# Altium footprint library CCGA - Square.PcbLib: 3 footprints
Each footprint in its own frame and in the unit in brackets; x right, y up, seen from the top. Pads: shape width x height; smd on the part's side, far side on the other; paste and mask are expansions set on the pad; w line width, h text height; cw(c..) or ccw(c..) is an arc to the next point about the centre after c.
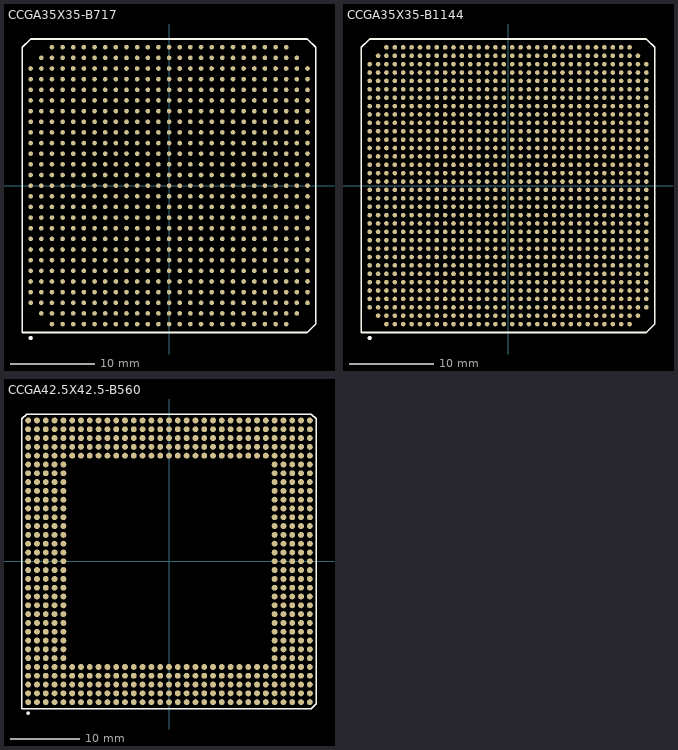
[diagram p0: the footprints below, top view; thin cyan lines are the x and y axes]

## CCGA35X35-B717 [mm] "717-Pin Ceramic Column Grid Array Package 1.27mm Pitch (CG717)"
height 5.5
pads (717):
  round 0.55 smd: A3(-16.51,-13.97) A4(-16.51,-12.7) A5(-16.51,-11.43) A6(-16.51,-10.16) A7(-16.51,-8.89) A8(-16.51,-7.62) A9(-16.51,-6.35) A10(-16.51,-5.08) A11(-16.51,-3.81) A12(-16.51,-2.54) A13(-16.51,-1.27) A14(-16.51,0) A15(-16.51,1.27) A16(-16.51,2.54) A17(-16.51,3.81) A18(-16.51,5.08) A19(-16.51,6.35) A20(-16.51,7.62) A21(-16.51,8.89) A22(-16.51,10.16) A23(-16.51,11.43) A24(-16.51,12.7) A25(-16.51,13.97) AA1(8.89,-16.51) AA2(8.89,-15.24) AA3(8.89,-13.97) AA4(8.89,-12.7) AA5(8.89,-11.43) AA6(8.89,-10.16) AA7(8.89,-8.89) AA8(8.89,-7.62) AA9(8.89,-6.35) AA10(8.89,-5.08) AA11(8.89,-3.81) AA12(8.89,-2.54) AA13(8.89,-1.27) AA14(8.89,0) AA15(8.89,1.27) AA16(8.89,2.54) AA17(8.89,3.81) AA18(8.89,5.08) AA19(8.89,6.35) AA20(8.89,7.62) AA21(8.89,8.89) AA22(8.89,10.16) AA23(8.89,11.43) AA24(8.89,12.7) AA25(8.89,13.97) AA26(8.89,15.24) AA27(8.89,16.51) AB1(10.16,-16.51) AB2(10.16,-15.24) AB3(10.16,-13.97) AB4(10.16,-12.7) AB5(10.16,-11.43) AB6(10.16,-10.16) AB7(10.16,-8.89) AB8(10.16,-7.62) AB9(10.16,-6.35) AB10(10.16,-5.08) AB11(10.16,-3.81) AB12(10.16,-2.54) AB13(10.16,-1.27) AB14(10.16,0) AB15(10.16,1.27) AB16(10.16,2.54) AB17(10.16,3.81) AB18(10.16,5.08) AB19(10.16,6.35) AB20(10.16,7.62) AB21(10.16,8.89) AB22(10.16,10.16) AB23(10.16,11.43) AB24(10.16,12.7) AB25(10.16,13.97) AB26(10.16,15.24) AB27(10.16,16.51) AC1(11.43,-16.51) AC2(11.43,-15.24) AC3(11.43,-13.97) AC4(11.43,-12.7) AC5(11.43,-11.43) AC6(11.43,-10.16) AC7(11.43,-8.89) AC8(11.43,-7.62) AC9(11.43,-6.35) AC10(11.43,-5.08) AC11(11.43,-3.81) AC12(11.43,-2.54) AC13(11.43,-1.27) AC14(11.43,0) AC15(11.43,1.27) AC16(11.43,2.54) AC17(11.43,3.81) AC18(11.43,5.08) AC19(11.43,6.35) AC20(11.43,7.62) AC21(11.43,8.89) AC22(11.43,10.16) AC23(11.43,11.43) AC24(11.43,12.7) AC25(11.43,13.97) AC26(11.43,15.24) AC27(11.43,16.51) AD1(12.7,-16.51) AD2(12.7,-15.24) AD3(12.7,-13.97) AD4(12.7,-12.7) AD5(12.7,-11.43) AD6(12.7,-10.16) AD7(12.7,-8.89) AD8(12.7,-7.62) AD9(12.7,-6.35) AD10(12.7,-5.08) AD11(12.7,-3.81) AD12(12.7,-2.54) AD13(12.7,-1.27) AD14(12.7,0) AD15(12.7,1.27) AD16(12.7,2.54) AD17(12.7,3.81) AD18(12.7,5.08) AD19(12.7,6.35) AD20(12.7,7.62) AD21(12.7,8.89) AD22(12.7,10.16) AD23(12.7,11.43) AD24(12.7,12.7) AD25(12.7,13.97) AD26(12.7,15.24) AD27(12.7,16.51) AE1(13.97,-16.51) AE2(13.97,-15.24) AE3(13.97,-13.97) AE4(13.97,-12.7) AE5(13.97,-11.43) AE6(13.97,-10.16) AE7(13.97,-8.89) AE8(13.97,-7.62) AE9(13.97,-6.35) AE10(13.97,-5.08) AE11(13.97,-3.81) AE12(13.97,-2.54) AE13(13.97,-1.27) AE14(13.97,0) AE15(13.97,1.27) AE16(13.97,2.54) AE17(13.97,3.81) AE18(13.97,5.08) AE19(13.97,6.35) AE20(13.97,7.62) AE21(13.97,8.89) AE22(13.97,10.16) AE23(13.97,11.43) AE24(13.97,12.7) AE25(13.97,13.97) AE26(13.97,15.24) AE27(13.97,16.51) AF2(15.24,-15.24) AF3(15.24,-13.97) AF4(15.24,-12.7) AF5(15.24,-11.43) AF6(15.24,-10.16) AF7(15.24,-8.89) AF8(15.24,-7.62) AF9(15.24,-6.35) AF10(15.24,-5.08) AF11(15.24,-3.81) AF12(15.24,-2.54) AF13(15.24,-1.27) AF14(15.24,0) AF15(15.24,1.27) AF16(15.24,2.54) AF17(15.24,3.81) AF18(15.24,5.08) AF19(15.24,6.35) AF20(15.24,7.62) AF21(15.24,8.89) AF22(15.24,10.16) AF23(15.24,11.43) AF24(15.24,12.7) AF25(15.24,13.97) AF26(15.24,15.24) AG3(16.51,-13.97) AG4(16.51,-12.7) AG5(16.51,-11.43) AG6(16.51,-10.16) AG7(16.51,-8.89) AG8(16.51,-7.62) AG9(16.51,-6.35) AG10(16.51,-5.08) AG11(16.51,-3.81) AG12(16.51,-2.54) AG13(16.51,-1.27) AG14(16.51,0) AG15(16.51,1.27) AG16(16.51,2.54) AG17(16.51,3.81) AG18(16.51,5.08) AG19(16.51,6.35) AG20(16.51,7.62) AG21(16.51,8.89) AG22(16.51,10.16) AG23(16.51,11.43) AG24(16.51,12.7) AG25(16.51,13.97) B2(-15.24,-15.24) B3(-15.24,-13.97) B4(-15.24,-12.7) B5(-15.24,-11.43) B6(-15.24,-10.16) B7(-15.24,-8.89) B8(-15.24,-7.62) B9(-15.24,-6.35) B10(-15.24,-5.08) B11(-15.24,-3.81) B12(-15.24,-2.54) B13(-15.24,-1.27) B14(-15.24,0) B15(-15.24,1.27) B16(-15.24,2.54) B17(-15.24,3.81) B18(-15.24,5.08) B19(-15.24,6.35) B20(-15.24,7.62) B21(-15.24,8.89) B22(-15.24,10.16) B23(-15.24,11.43) B24(-15.24,12.7) B25(-15.24,13.97) B26(-15.24,15.24) C1(-13.97,-16.51) C2(-13.97,-15.24) C3(-13.97,-13.97) C4(-13.97,-12.7) C5(-13.97,-11.43) C6(-13.97,-10.16) C7(-13.97,-8.89) C8(-13.97,-7.62) C9(-13.97,-6.35) C10(-13.97,-5.08) C11(-13.97,-3.81) C12(-13.97,-2.54) C13(-13.97,-1.27) C14(-13.97,0) C15(-13.97,1.27) C16(-13.97,2.54) C17(-13.97,3.81) C18(-13.97,5.08) C19(-13.97,6.35) C20(-13.97,7.62) C21(-13.97,8.89) C22(-13.97,10.16) C23(-13.97,11.43) C24(-13.97,12.7) C25(-13.97,13.97) C26(-13.97,15.24) C27(-13.97,16.51) D1(-12.7,-16.51) D2(-12.7,-15.24) D3(-12.7,-13.97) D4(-12.7,-12.7) D5(-12.7,-11.43) D6(-12.7,-10.16) D7(-12.7,-8.89) D8(-12.7,-7.62) D9(-12.7,-6.35) D10(-12.7,-5.08) D11(-12.7,-3.81) D12(-12.7,-2.54) D13(-12.7,-1.27) D14(-12.7,0) D15(-12.7,1.27) D16(-12.7,2.54) D17(-12.7,3.81) D18(-12.7,5.08) D19(-12.7,6.35) D20(-12.7,7.62) D21(-12.7,8.89) D22(-12.7,10.16) D23(-12.7,11.43) D24(-12.7,12.7) D25(-12.7,13.97) D26(-12.7,15.24) D27(-12.7,16.51) E1(-11.43,-16.51) E2(-11.43,-15.24) E3(-11.43,-13.97) E4(-11.43,-12.7) E5(-11.43,-11.43) E6(-11.43,-10.16) E7(-11.43,-8.89) E8(-11.43,-7.62) E9(-11.43,-6.35) E10(-11.43,-5.08) E11(-11.43,-3.81) E12(-11.43,-2.54) E13(-11.43,-1.27) E14(-11.43,0) E15(-11.43,1.27) E16(-11.43,2.54) E17(-11.43,3.81) E18(-11.43,5.08) E19(-11.43,6.35) E20(-11.43,7.62) E21(-11.43,8.89) E22(-11.43,10.16) E23(-11.43,11.43) E24(-11.43,12.7) E25(-11.43,13.97) E26(-11.43,15.24) E27(-11.43,16.51) F1(-10.16,-16.51) F2(-10.16,-15.24) F3(-10.16,-13.97) F4(-10.16,-12.7) F5(-10.16,-11.43) F6(-10.16,-10.16) F7(-10.16,-8.89) F8(-10.16,-7.62) F9(-10.16,-6.35) F10(-10.16,-5.08) F11(-10.16,-3.81) F12(-10.16,-2.54) F13(-10.16,-1.27) F14(-10.16,0) F15(-10.16,1.27) F16(-10.16,2.54) F17(-10.16,3.81) F18(-10.16,5.08) F19(-10.16,6.35) F20(-10.16,7.62) F21(-10.16,8.89) F22(-10.16,10.16) F23(-10.16,11.43) F24(-10.16,12.7) F25(-10.16,13.97) F26(-10.16,15.24) F27(-10.16,16.51) G1(-8.89,-16.51) G2(-8.89,-15.24) G3(-8.89,-13.97) G4(-8.89,-12.7) G5(-8.89,-11.43) G6(-8.89,-10.16) G7(-8.89,-8.89) G8(-8.89,-7.62) G9(-8.89,-6.35) G10(-8.89,-5.08) G11(-8.89,-3.81) G12(-8.89,-2.54) G13(-8.89,-1.27) G14(-8.89,0) G15(-8.89,1.27) G16(-8.89,2.54) G17(-8.89,3.81) G18(-8.89,5.08) G19(-8.89,6.35) G20(-8.89,7.62) G21(-8.89,8.89) G22(-8.89,10.16) G23(-8.89,11.43) G24(-8.89,12.7) G25(-8.89,13.97) G26(-8.89,15.24) G27(-8.89,16.51) H1(-7.62,-16.51) H2(-7.62,-15.24) H3(-7.62,-13.97) H4(-7.62,-12.7) H5(-7.62,-11.43) H6(-7.62,-10.16) H7(-7.62,-8.89) H8(-7.62,-7.62) H9(-7.62,-6.35) H10(-7.62,-5.08) H11(-7.62,-3.81) H12(-7.62,-2.54) H13(-7.62,-1.27) H14(-7.62,0) H15(-7.62,1.27) H16(-7.62,2.54) H17(-7.62,3.81) H18(-7.62,5.08) H19(-7.62,6.35) H20(-7.62,7.62) H21(-7.62,8.89) H22(-7.62,10.16) H23(-7.62,11.43) H24(-7.62,12.7) H25(-7.62,13.97) H26(-7.62,15.24) H27(-7.62,16.51) J1(-6.35,-16.51) J2(-6.35,-15.24) J3(-6.35,-13.97) J4(-6.35,-12.7) J5(-6.35,-11.43) J6(-6.35,-10.16) J7(-6.35,-8.89) J8(-6.35,-7.62) J9(-6.35,-6.35) J10(-6.35,-5.08) J11(-6.35,-3.81) J12(-6.35,-2.54) J13(-6.35,-1.27) J14(-6.35,0) J15(-6.35,1.27) J16(-6.35,2.54) J17(-6.35,3.81) J18(-6.35,5.08) J19(-6.35,6.35) J20(-6.35,7.62) J21(-6.35,8.89) J22(-6.35,10.16) J23(-6.35,11.43) J24(-6.35,12.7) J25(-6.35,13.97) J26(-6.35,15.24) J27(-6.35,16.51) K1(-5.08,-16.51) K2(-5.08,-15.24) K3(-5.08,-13.97) K4(-5.08,-12.7) K5(-5.08,-11.43) K6(-5.08,-10.16) K7(-5.08,-8.89) K8(-5.08,-7.62) K9(-5.08,-6.35) K10(-5.08,-5.08) K11(-5.08,-3.81) K12(-5.08,-2.54) K13(-5.08,-1.27) K14(-5.08,0) K15(-5.08,1.27) K16(-5.08,2.54) K17(-5.08,3.81) K18(-5.08,5.08) K19(-5.08,6.35) K20(-5.08,7.62) K21(-5.08,8.89) K22(-5.08,10.16) K23(-5.08,11.43) K24(-5.08,12.7) K25(-5.08,13.97) K26(-5.08,15.24) K27(-5.08,16.51) L1(-3.81,-16.51) L2(-3.81,-15.24) L3(-3.81,-13.97) L4(-3.81,-12.7) L5(-3.81,-11.43) L6(-3.81,-10.16) L7(-3.81,-8.89) L8(-3.81,-7.62) L9(-3.81,-6.35) L10(-3.81,-5.08) L11(-3.81,-3.81) L12(-3.81,-2.54) L13(-3.81,-1.27) L14(-3.81,0) L15(-3.81,1.27) L16(-3.81,2.54) L17(-3.81,3.81) L18(-3.81,5.08) L19(-3.81,6.35) L20(-3.81,7.62) L21(-3.81,8.89) L22(-3.81,10.16) L23(-3.81,11.43) L24(-3.81,12.7) L25(-3.81,13.97) L26(-3.81,15.24) L27(-3.81,16.51) M1(-2.54,-16.51) M2(-2.54,-15.24) M3(-2.54,-13.97) M4(-2.54,-12.7) M5(-2.54,-11.43) M6(-2.54,-10.16) M7(-2.54,-8.89) M8(-2.54,-7.62) M9(-2.54,-6.35) M10(-2.54,-5.08) M11(-2.54,-3.81) M12(-2.54,-2.54) M13(-2.54,-1.27) M14(-2.54,0) M15(-2.54,1.27) M16(-2.54,2.54) M17(-2.54,3.81) M18(-2.54,5.08) M19(-2.54,6.35) M20(-2.54,7.62) M21(-2.54,8.89) M22(-2.54,10.16) M23(-2.54,11.43) M24(-2.54,12.7) M25(-2.54,13.97) M26(-2.54,15.24) M27(-2.54,16.51) N1(-1.27,-16.51) N2(-1.27,-15.24) N3(-1.27,-13.97) N4(-1.27,-12.7) N5(-1.27,-11.43) N6(-1.27,-10.16) N7(-1.27,-8.89) N8(-1.27,-7.62) N9(-1.27,-6.35) N10(-1.27,-5.08) N11(-1.27,-3.81) N12(-1.27,-2.54) N13(-1.27,-1.27) N14(-1.27,0) N15(-1.27,1.27) N16(-1.27,2.54) N17(-1.27,3.81) N18(-1.27,5.08) N19(-1.27,6.35) N20(-1.27,7.62) N21(-1.27,8.89) N22(-1.27,10.16) N23(-1.27,11.43) N24(-1.27,12.7) N25(-1.27,13.97) N26(-1.27,15.24) N27(-1.27,16.51) P1(0,-16.51) P2(0,-15.24) P3(0,-13.97) P4(0,-12.7) P5(0,-11.43) P6(0,-10.16) P7(0,-8.89) P8(0,-7.62) P9(0,-6.35) P10(0,-5.08) P11(0,-3.81) P12(0,-2.54) P13(0,-1.27) P14(0,0) P15(0,1.27) P16(0,2.54) P17(0,3.81) P18(0,5.08) P19(0,6.35) P20(0,7.62) P21(0,8.89) P22(0,10.16) P23(0,11.43) P24(0,12.7) P25(0,13.97) P26(0,15.24) P27(0,16.51) R1(1.27,-16.51) R2(1.27,-15.24) R3(1.27,-13.97) R4(1.27,-12.7) R5(1.27,-11.43) R6(1.27,-10.16) R7(1.27,-8.89) R8(1.27,-7.62) R9(1.27,-6.35) R10(1.27,-5.08) R11(1.27,-3.81) R12(1.27,-2.54) R13(1.27,-1.27) R14(1.27,0) R15(1.27,1.27) R16(1.27,2.54) R17(1.27,3.81) R18(1.27,5.08) R19(1.27,6.35) R20(1.27,7.62) R21(1.27,8.89) R22(1.27,10.16) R23(1.27,11.43) R24(1.27,12.7) R25(1.27,13.97) R26(1.27,15.24) R27(1.27,16.51) T1(2.54,-16.51) T2(2.54,-15.24) T3(2.54,-13.97) T4(2.54,-12.7) T5(2.54,-11.43) T6(2.54,-10.16) T7(2.54,-8.89) T8(2.54,-7.62) T9(2.54,-6.35) T10(2.54,-5.08) T11(2.54,-3.81) T12(2.54,-2.54) T13(2.54,-1.27) T14(2.54,0) T15(2.54,1.27) T16(2.54,2.54) T17(2.54,3.81) T18(2.54,5.08) T19(2.54,6.35) T20(2.54,7.62) T21(2.54,8.89) T22(2.54,10.16) T23(2.54,11.43) T24(2.54,12.7) T25(2.54,13.97) T26(2.54,15.24) T27(2.54,16.51) U1(3.81,-16.51) U2(3.81,-15.24) U3(3.81,-13.97) U4(3.81,-12.7) U5(3.81,-11.43) U6(3.81,-10.16) U7(3.81,-8.89) U8(3.81,-7.62) U9(3.81,-6.35) U10(3.81,-5.08) U11(3.81,-3.81) U12(3.81,-2.54) U13(3.81,-1.27) U14(3.81,0) U15(3.81,1.27) U16(3.81,2.54) U17(3.81,3.81) U18(3.81,5.08) U19(3.81,6.35) U20(3.81,7.62) U21(3.81,8.89) U22(3.81,10.16) U23(3.81,11.43) U24(3.81,12.7) U25(3.81,13.97) U26(3.81,15.24) U27(3.81,16.51) V1(5.08,-16.51) V2(5.08,-15.24) V3(5.08,-13.97) V4(5.08,-12.7) V5(5.08,-11.43) V6(5.08,-10.16) V7(5.08,-8.89) V8(5.08,-7.62) V9(5.08,-6.35) V10(5.08,-5.08) V11(5.08,-3.81) V12(5.08,-2.54) V13(5.08,-1.27) V14(5.08,0) V15(5.08,1.27) V16(5.08,2.54) V17(5.08,3.81) V18(5.08,5.08) V19(5.08,6.35) V20(5.08,7.62) V21(5.08,8.89) V22(5.08,10.16) V23(5.08,11.43) V24(5.08,12.7) V25(5.08,13.97) V26(5.08,15.24) V27(5.08,16.51) W1(6.35,-16.51) W2(6.35,-15.24) W3(6.35,-13.97) W4(6.35,-12.7) W5(6.35,-11.43) W6(6.35,-10.16) W7(6.35,-8.89) W8(6.35,-7.62) W9(6.35,-6.35) W10(6.35,-5.08) W11(6.35,-3.81) W12(6.35,-2.54) W13(6.35,-1.27) W14(6.35,0) W15(6.35,1.27) W16(6.35,2.54) W17(6.35,3.81) W18(6.35,5.08) W19(6.35,6.35) W20(6.35,7.62) W21(6.35,8.89) W22(6.35,10.16) W23(6.35,11.43) W24(6.35,12.7) W25(6.35,13.97) W26(6.35,15.24) W27(6.35,16.51) Y1(7.62,-16.51) Y2(7.62,-15.24) Y3(7.62,-13.97) Y4(7.62,-12.7) Y5(7.62,-11.43) Y6(7.62,-10.16) Y7(7.62,-8.89) Y8(7.62,-7.62) Y9(7.62,-6.35) Y10(7.62,-5.08) Y11(7.62,-3.81) Y12(7.62,-2.54) Y13(7.62,-1.27) Y14(7.62,0) Y15(7.62,1.27) Y16(7.62,2.54) Y17(7.62,3.81) Y18(7.62,5.08) Y19(7.62,6.35) Y20(7.62,7.62) Y21(7.62,8.89) Y22(7.62,10.16) Y23(7.62,11.43) Y24(7.62,12.7) Y25(7.62,13.97) Y26(7.62,15.24) Y27(7.62,16.51)
Top Overlay:
  circle w0.25: c-16.51,-18.165 r0.125
  lines w0.2: -17.51,-17.51 16.49,-17.51 17.49,-16.51 17.49,16.49 16.49,17.49 -16.51,17.49 -17.51,16.49 -17.51,-17.51

## CCGA35X35-B1144 [mm] "1144-Pin Ceramic Flip-Chip Fine-Pitch CGA 1.00mm Pitch (CF1144)"
height 7
pads (1144):
  round 0.55 smd: A3(-16.5,-14.5) A4(-16.5,-13.5) A5(-16.5,-12.5) A6(-16.5,-11.5) A7(-16.5,-10.5) A8(-16.5,-9.5) A9(-16.5,-8.5) A10(-16.5,-7.5) A11(-16.5,-6.5) A12(-16.5,-5.5) A13(-16.5,-4.5) A14(-16.5,-3.5) A15(-16.5,-2.5) A16(-16.5,-1.5) A17(-16.5,-0.5) A18(-16.5,0.5) A19(-16.5,1.5) A20(-16.5,2.5) A21(-16.5,3.5) A22(-16.5,4.5) A23(-16.5,5.5) A24(-16.5,6.5) A25(-16.5,7.5) A26(-16.5,8.5) A27(-16.5,9.5) A28(-16.5,10.5) A29(-16.5,11.5) A30(-16.5,12.5) A31(-16.5,13.5) A32(-16.5,14.5) AA1(3.5,-16.5) AA2(3.5,-15.5) AA3(3.5,-14.5) AA4(3.5,-13.5) AA5(3.5,-12.5) AA6(3.5,-11.5) AA7(3.5,-10.5) AA8(3.5,-9.5) AA9(3.5,-8.5) AA10(3.5,-7.5) AA11(3.5,-6.5) AA12(3.5,-5.5) AA13(3.5,-4.5) AA14(3.5,-3.5) AA15(3.5,-2.5) AA16(3.5,-1.5) AA17(3.5,-0.5) AA18(3.5,0.5) AA19(3.5,1.5) AA20(3.5,2.5) AA21(3.5,3.5) AA22(3.5,4.5) AA23(3.5,5.5) AA24(3.5,6.5) AA25(3.5,7.5) AA26(3.5,8.5) AA27(3.5,9.5) AA28(3.5,10.5) AA29(3.5,11.5) AA30(3.5,12.5) AA31(3.5,13.5) AA32(3.5,14.5) AA33(3.5,15.5) AA34(3.5,16.5) AB1(4.5,-16.5) AB2(4.5,-15.5) AB3(4.5,-14.5) AB4(4.5,-13.5) AB5(4.5,-12.5) AB6(4.5,-11.5) AB7(4.5,-10.5) AB8(4.5,-9.5) AB9(4.5,-8.5) AB10(4.5,-7.5) AB11(4.5,-6.5) AB12(4.5,-5.5) AB13(4.5,-4.5) AB14(4.5,-3.5) AB15(4.5,-2.5) AB16(4.5,-1.5) AB17(4.5,-0.5) AB18(4.5,0.5) AB19(4.5,1.5) AB20(4.5,2.5) AB21(4.5,3.5) AB22(4.5,4.5) AB23(4.5,5.5) AB24(4.5,6.5) AB25(4.5,7.5) AB26(4.5,8.5) AB27(4.5,9.5) AB28(4.5,10.5) AB29(4.5,11.5) AB30(4.5,12.5) AB31(4.5,13.5) AB32(4.5,14.5) AB33(4.5,15.5) AB34(4.5,16.5) AC1(5.5,-16.5) AC2(5.5,-15.5) AC3(5.5,-14.5) AC4(5.5,-13.5) AC5(5.5,-12.5) AC6(5.5,-11.5) AC7(5.5,-10.5) AC8(5.5,-9.5) AC9(5.5,-8.5) AC10(5.5,-7.5) AC11(5.5,-6.5) AC12(5.5,-5.5) AC13(5.5,-4.5) AC14(5.5,-3.5) AC15(5.5,-2.5) AC16(5.5,-1.5) AC17(5.5,-0.5) AC18(5.5,0.5) AC19(5.5,1.5) AC20(5.5,2.5) AC21(5.5,3.5) AC22(5.5,4.5) AC23(5.5,5.5) AC24(5.5,6.5) AC25(5.5,7.5) AC26(5.5,8.5) AC27(5.5,9.5) AC28(5.5,10.5) AC29(5.5,11.5) AC30(5.5,12.5) AC31(5.5,13.5) AC32(5.5,14.5) AC33(5.5,15.5) AC34(5.5,16.5) AD1(6.5,-16.5) AD2(6.5,-15.5) AD3(6.5,-14.5) AD4(6.5,-13.5) AD5(6.5,-12.5) AD6(6.5,-11.5) AD7(6.5,-10.5) AD8(6.5,-9.5) AD9(6.5,-8.5) AD10(6.5,-7.5) AD11(6.5,-6.5) AD12(6.5,-5.5) AD13(6.5,-4.5) AD14(6.5,-3.5) AD15(6.5,-2.5) AD16(6.5,-1.5) AD17(6.5,-0.5) AD18(6.5,0.5) AD19(6.5,1.5) AD20(6.5,2.5) AD21(6.5,3.5) AD22(6.5,4.5) AD23(6.5,5.5) AD24(6.5,6.5) AD25(6.5,7.5) AD26(6.5,8.5) AD27(6.5,9.5) AD28(6.5,10.5) AD29(6.5,11.5) AD30(6.5,12.5) AD31(6.5,13.5) AD32(6.5,14.5) AD33(6.5,15.5) AD34(6.5,16.5) AE1(7.5,-16.5) AE2(7.5,-15.5) AE3(7.5,-14.5) AE4(7.5,-13.5) AE5(7.5,-12.5) AE6(7.5,-11.5) AE7(7.5,-10.5) AE8(7.5,-9.5) AE9(7.5,-8.5) AE10(7.5,-7.5) AE11(7.5,-6.5) AE12(7.5,-5.5) AE13(7.5,-4.5) AE14(7.5,-3.5) AE15(7.5,-2.5) AE16(7.5,-1.5) AE17(7.5,-0.5) AE18(7.5,0.5) AE19(7.5,1.5) AE20(7.5,2.5) AE21(7.5,3.5) AE22(7.5,4.5) AE23(7.5,5.5) AE24(7.5,6.5) AE25(7.5,7.5) AE26(7.5,8.5) AE27(7.5,9.5) AE28(7.5,10.5) AE29(7.5,11.5) AE30(7.5,12.5) AE31(7.5,13.5) AE32(7.5,14.5) AE33(7.5,15.5) AE34(7.5,16.5) AF1(8.5,-16.5) AF2(8.5,-15.5) AF3(8.5,-14.5) AF4(8.5,-13.5) AF5(8.5,-12.5) AF6(8.5,-11.5) AF7(8.5,-10.5) AF8(8.5,-9.5) AF9(8.5,-8.5) AF10(8.5,-7.5) AF11(8.5,-6.5) AF12(8.5,-5.5) AF13(8.5,-4.5) AF14(8.5,-3.5) AF15(8.5,-2.5) AF16(8.5,-1.5) AF17(8.5,-0.5) AF18(8.5,0.5) AF19(8.5,1.5) AF20(8.5,2.5) AF21(8.5,3.5) AF22(8.5,4.5) AF23(8.5,5.5) AF24(8.5,6.5) AF25(8.5,7.5) AF26(8.5,8.5) AF27(8.5,9.5) AF28(8.5,10.5) AF29(8.5,11.5) AF30(8.5,12.5) AF31(8.5,13.5) AF32(8.5,14.5) AF33(8.5,15.5) AF34(8.5,16.5) AG1(9.5,-16.5) AG2(9.5,-15.5) AG3(9.5,-14.5) AG4(9.5,-13.5) AG5(9.5,-12.5) AG6(9.5,-11.5) AG7(9.5,-10.5) AG8(9.5,-9.5) AG9(9.5,-8.5) AG10(9.5,-7.5) AG11(9.5,-6.5) AG12(9.5,-5.5) AG13(9.5,-4.5) AG14(9.5,-3.5) AG15(9.5,-2.5) AG16(9.5,-1.5) AG17(9.5,-0.5) AG18(9.5,0.5) AG19(9.5,1.5) AG20(9.5,2.5) AG21(9.5,3.5) AG22(9.5,4.5) AG23(9.5,5.5) AG24(9.5,6.5) AG25(9.5,7.5) AG26(9.5,8.5) AG27(9.5,9.5) AG28(9.5,10.5) AG29(9.5,11.5) AG30(9.5,12.5) AG31(9.5,13.5) AG32(9.5,14.5) AG33(9.5,15.5) AG34(9.5,16.5) AH1(10.5,-16.5) AH2(10.5,-15.5) AH3(10.5,-14.5) AH4(10.5,-13.5) AH5(10.5,-12.5) AH6(10.5,-11.5) AH7(10.5,-10.5) AH8(10.5,-9.5) AH9(10.5,-8.5) AH10(10.5,-7.5) AH11(10.5,-6.5) AH12(10.5,-5.5) AH13(10.5,-4.5) AH14(10.5,-3.5) AH15(10.5,-2.5) AH16(10.5,-1.5) AH17(10.5,-0.5) AH18(10.5,0.5) AH19(10.5,1.5) AH20(10.5,2.5) AH21(10.5,3.5) AH22(10.5,4.5) AH23(10.5,5.5) AH24(10.5,6.5) AH25(10.5,7.5) AH26(10.5,8.5) AH27(10.5,9.5) AH28(10.5,10.5) AH29(10.5,11.5) AH30(10.5,12.5) AH31(10.5,13.5) AH32(10.5,14.5) AH33(10.5,15.5) AH34(10.5,16.5) AJ1(11.5,-16.5) AJ2(11.5,-15.5) AJ3(11.5,-14.5) AJ4(11.5,-13.5) AJ5(11.5,-12.5) AJ6(11.5,-11.5) AJ7(11.5,-10.5) AJ8(11.5,-9.5) AJ9(11.5,-8.5) AJ10(11.5,-7.5) AJ11(11.5,-6.5) AJ12(11.5,-5.5) AJ13(11.5,-4.5) AJ14(11.5,-3.5) AJ15(11.5,-2.5) AJ16(11.5,-1.5) AJ17(11.5,-0.5) AJ18(11.5,0.5) AJ19(11.5,1.5) AJ20(11.5,2.5) AJ21(11.5,3.5) AJ22(11.5,4.5) AJ23(11.5,5.5) AJ24(11.5,6.5) AJ25(11.5,7.5) AJ26(11.5,8.5) AJ27(11.5,9.5) AJ28(11.5,10.5) AJ29(11.5,11.5) AJ30(11.5,12.5) AJ31(11.5,13.5) AJ32(11.5,14.5) AJ33(11.5,15.5) AJ34(11.5,16.5) AK1(12.5,-16.5) AK2(12.5,-15.5) AK3(12.5,-14.5) AK4(12.5,-13.5) AK5(12.5,-12.5) AK6(12.5,-11.5) AK7(12.5,-10.5) AK8(12.5,-9.5) AK9(12.5,-8.5) AK10(12.5,-7.5) AK11(12.5,-6.5) AK12(12.5,-5.5) AK13(12.5,-4.5) AK14(12.5,-3.5) AK15(12.5,-2.5) AK16(12.5,-1.5) AK17(12.5,-0.5) AK18(12.5,0.5) AK19(12.5,1.5) AK20(12.5,2.5) AK21(12.5,3.5) AK22(12.5,4.5) AK23(12.5,5.5) AK24(12.5,6.5) AK25(12.5,7.5) AK26(12.5,8.5) AK27(12.5,9.5) AK28(12.5,10.5) AK29(12.5,11.5) AK30(12.5,12.5) AK31(12.5,13.5) AK32(12.5,14.5) AK33(12.5,15.5) AK34(12.5,16.5) AL1(13.5,-16.5) AL2(13.5,-15.5) AL3(13.5,-14.5) AL4(13.5,-13.5) AL5(13.5,-12.5) AL6(13.5,-11.5) AL7(13.5,-10.5) AL8(13.5,-9.5) AL9(13.5,-8.5) AL10(13.5,-7.5) AL11(13.5,-6.5) AL12(13.5,-5.5) AL13(13.5,-4.5) AL14(13.5,-3.5) AL15(13.5,-2.5) AL16(13.5,-1.5) AL17(13.5,-0.5) AL18(13.5,0.5) AL19(13.5,1.5) AL20(13.5,2.5) AL21(13.5,3.5) AL22(13.5,4.5) AL23(13.5,5.5) AL24(13.5,6.5) AL25(13.5,7.5) AL26(13.5,8.5) AL27(13.5,9.5) AL28(13.5,10.5) AL29(13.5,11.5) AL30(13.5,12.5) AL31(13.5,13.5) AL32(13.5,14.5) AL33(13.5,15.5) AL34(13.5,16.5) AM1(14.5,-16.5) AM2(14.5,-15.5) AM3(14.5,-14.5) AM4(14.5,-13.5) AM5(14.5,-12.5) AM6(14.5,-11.5) AM7(14.5,-10.5) AM8(14.5,-9.5) AM9(14.5,-8.5) AM10(14.5,-7.5) AM11(14.5,-6.5) AM12(14.5,-5.5) AM13(14.5,-4.5) AM14(14.5,-3.5) AM15(14.5,-2.5) AM16(14.5,-1.5) AM17(14.5,-0.5) AM18(14.5,0.5) AM19(14.5,1.5) AM20(14.5,2.5) AM21(14.5,3.5) AM22(14.5,4.5) AM23(14.5,5.5) AM24(14.5,6.5) AM25(14.5,7.5) AM26(14.5,8.5) AM27(14.5,9.5) AM28(14.5,10.5) AM29(14.5,11.5) AM30(14.5,12.5) AM31(14.5,13.5) AM32(14.5,14.5) AM33(14.5,15.5) AM34(14.5,16.5) AN2(15.5,-15.5) AN3(15.5,-14.5) AN4(15.5,-13.5) AN5(15.5,-12.5) AN6(15.5,-11.5) AN7(15.5,-10.5) AN8(15.5,-9.5) AN9(15.5,-8.5) AN10(15.5,-7.5) AN11(15.5,-6.5) AN12(15.5,-5.5) AN13(15.5,-4.5) AN14(15.5,-3.5) AN15(15.5,-2.5) AN16(15.5,-1.5) AN17(15.5,-0.5) AN18(15.5,0.5) AN19(15.5,1.5) AN20(15.5,2.5) AN21(15.5,3.5) AN22(15.5,4.5) AN23(15.5,5.5) AN24(15.5,6.5) AN25(15.5,7.5) AN26(15.5,8.5) AN27(15.5,9.5) AN28(15.5,10.5) AN29(15.5,11.5) AN30(15.5,12.5) AN31(15.5,13.5) AN32(15.5,14.5) AN33(15.5,15.5) AP3(16.5,-14.5) AP4(16.5,-13.5) AP5(16.5,-12.5) AP6(16.5,-11.5) AP7(16.5,-10.5) AP8(16.5,-9.5) AP9(16.5,-8.5) AP10(16.5,-7.5) AP11(16.5,-6.5) AP12(16.5,-5.5) AP13(16.5,-4.5) AP14(16.5,-3.5) AP15(16.5,-2.5) AP16(16.5,-1.5) AP17(16.5,-0.5) AP18(16.5,0.5) AP19(16.5,1.5) AP20(16.5,2.5) AP21(16.5,3.5) AP22(16.5,4.5) AP23(16.5,5.5) AP24(16.5,6.5) AP25(16.5,7.5) AP26(16.5,8.5) AP27(16.5,9.5) AP28(16.5,10.5) AP29(16.5,11.5) AP30(16.5,12.5) AP31(16.5,13.5) AP32(16.5,14.5) B2(-15.5,-15.5) B3(-15.5,-14.5) B4(-15.5,-13.5) B5(-15.5,-12.5) B6(-15.5,-11.5) B7(-15.5,-10.5) B8(-15.5,-9.5) B9(-15.5,-8.5) B10(-15.5,-7.5) B11(-15.5,-6.5) B12(-15.5,-5.5) B13(-15.5,-4.5) B14(-15.5,-3.5) B15(-15.5,-2.5) B16(-15.5,-1.5) B17(-15.5,-0.5) B18(-15.5,0.5) B19(-15.5,1.5) B20(-15.5,2.5) B21(-15.5,3.5) B22(-15.5,4.5) B23(-15.5,5.5) B24(-15.5,6.5) B25(-15.5,7.5) B26(-15.5,8.5) B27(-15.5,9.5) B28(-15.5,10.5) B29(-15.5,11.5) B30(-15.5,12.5) B31(-15.5,13.5) B32(-15.5,14.5) B33(-15.5,15.5) C1(-14.5,-16.5) C2(-14.5,-15.5) C3(-14.5,-14.5) C4(-14.5,-13.5) C5(-14.5,-12.5) C6(-14.5,-11.5) C7(-14.5,-10.5) C8(-14.5,-9.5) C9(-14.5,-8.5) C10(-14.5,-7.5) C11(-14.5,-6.5) C12(-14.5,-5.5) C13(-14.5,-4.5) C14(-14.5,-3.5) C15(-14.5,-2.5) C16(-14.5,-1.5) C17(-14.5,-0.5) C18(-14.5,0.5) C19(-14.5,1.5) C20(-14.5,2.5) C21(-14.5,3.5) C22(-14.5,4.5) C23(-14.5,5.5) C24(-14.5,6.5) C25(-14.5,7.5) C26(-14.5,8.5) C27(-14.5,9.5) C28(-14.5,10.5) C29(-14.5,11.5) C30(-14.5,12.5) C31(-14.5,13.5) C32(-14.5,14.5) C33(-14.5,15.5) C34(-14.5,16.5) D1(-13.5,-16.5) D2(-13.5,-15.5) D3(-13.5,-14.5) D4(-13.5,-13.5) D5(-13.5,-12.5) D6(-13.5,-11.5) D7(-13.5,-10.5) D8(-13.5,-9.5) D9(-13.5,-8.5) D10(-13.5,-7.5) D11(-13.5,-6.5) D12(-13.5,-5.5) D13(-13.5,-4.5) D14(-13.5,-3.5) D15(-13.5,-2.5) D16(-13.5,-1.5) D17(-13.5,-0.5) D18(-13.5,0.5) D19(-13.5,1.5) D20(-13.5,2.5) D21(-13.5,3.5) D22(-13.5,4.5) D23(-13.5,5.5) D24(-13.5,6.5) D25(-13.5,7.5) D26(-13.5,8.5) D27(-13.5,9.5) D28(-13.5,10.5) D29(-13.5,11.5) D30(-13.5,12.5) D31(-13.5,13.5) D32(-13.5,14.5) D33(-13.5,15.5) D34(-13.5,16.5) E1(-12.5,-16.5) E2(-12.5,-15.5) E3(-12.5,-14.5) E4(-12.5,-13.5) E5(-12.5,-12.5) E6(-12.5,-11.5) E7(-12.5,-10.5) E8(-12.5,-9.5) E9(-12.5,-8.5) E10(-12.5,-7.5) E11(-12.5,-6.5) E12(-12.5,-5.5) E13(-12.5,-4.5) E14(-12.5,-3.5) E15(-12.5,-2.5) E16(-12.5,-1.5) E17(-12.5,-0.5) E18(-12.5,0.5) E19(-12.5,1.5) E20(-12.5,2.5) E21(-12.5,3.5) E22(-12.5,4.5) E23(-12.5,5.5) E24(-12.5,6.5) E25(-12.5,7.5) E26(-12.5,8.5) E27(-12.5,9.5) E28(-12.5,10.5) E29(-12.5,11.5) E30(-12.5,12.5) E31(-12.5,13.5) E32(-12.5,14.5) E33(-12.5,15.5) E34(-12.5,16.5) F1(-11.5,-16.5) F2(-11.5,-15.5) F3(-11.5,-14.5) F4(-11.5,-13.5) F5(-11.5,-12.5) F6(-11.5,-11.5) F7(-11.5,-10.5) F8(-11.5,-9.5) F9(-11.5,-8.5) F10(-11.5,-7.5) F11(-11.5,-6.5) F12(-11.5,-5.5) F13(-11.5,-4.5) F14(-11.5,-3.5) F15(-11.5,-2.5) F16(-11.5,-1.5) F17(-11.5,-0.5) F18(-11.5,0.5) F19(-11.5,1.5) F20(-11.5,2.5) F21(-11.5,3.5) F22(-11.5,4.5) F23(-11.5,5.5) F24(-11.5,6.5) F25(-11.5,7.5) F26(-11.5,8.5) F27(-11.5,9.5) F28(-11.5,10.5) F29(-11.5,11.5) F30(-11.5,12.5) F31(-11.5,13.5) F32(-11.5,14.5) F33(-11.5,15.5) F34(-11.5,16.5) G1(-10.5,-16.5) G2(-10.5,-15.5) G3(-10.5,-14.5) G4(-10.5,-13.5) G5(-10.5,-12.5) G6(-10.5,-11.5) G7(-10.5,-10.5) G8(-10.5,-9.5) G9(-10.5,-8.5) G10(-10.5,-7.5) G11(-10.5,-6.5) G12(-10.5,-5.5) G13(-10.5,-4.5) G14(-10.5,-3.5) G15(-10.5,-2.5) G16(-10.5,-1.5) G17(-10.5,-0.5) G18(-10.5,0.5) G19(-10.5,1.5) G20(-10.5,2.5) G21(-10.5,3.5) G22(-10.5,4.5) G23(-10.5,5.5) G24(-10.5,6.5) G25(-10.5,7.5) G26(-10.5,8.5) G27(-10.5,9.5) G28(-10.5,10.5) G29(-10.5,11.5) G30(-10.5,12.5) G31(-10.5,13.5) G32(-10.5,14.5) G33(-10.5,15.5) G34(-10.5,16.5) H1(-9.5,-16.5) H2(-9.5,-15.5) H3(-9.5,-14.5) H4(-9.5,-13.5) H5(-9.5,-12.5) H6(-9.5,-11.5) H7(-9.5,-10.5) H8(-9.5,-9.5) H9(-9.5,-8.5) H10(-9.5,-7.5) H11(-9.5,-6.5) H12(-9.5,-5.5) H13(-9.5,-4.5) H14(-9.5,-3.5) H15(-9.5,-2.5) H16(-9.5,-1.5) H17(-9.5,-0.5) H18(-9.5,0.5) H19(-9.5,1.5) H20(-9.5,2.5) H21(-9.5,3.5) H22(-9.5,4.5) H23(-9.5,5.5) H24(-9.5,6.5) H25(-9.5,7.5) H26(-9.5,8.5) H27(-9.5,9.5) H28(-9.5,10.5) H29(-9.5,11.5) H30(-9.5,12.5) H31(-9.5,13.5) H32(-9.5,14.5) H33(-9.5,15.5) H34(-9.5,16.5) J1(-8.5,-16.5) J2(-8.5,-15.5) J3(-8.5,-14.5) J4(-8.5,-13.5) J5(-8.5,-12.5) J6(-8.5,-11.5) J7(-8.5,-10.5) J8(-8.5,-9.5) J9(-8.5,-8.5) J10(-8.5,-7.5) J11(-8.5,-6.5) J12(-8.5,-5.5) J13(-8.5,-4.5) J14(-8.5,-3.5) J15(-8.5,-2.5) J16(-8.5,-1.5) J17(-8.5,-0.5) J18(-8.5,0.5) J19(-8.5,1.5) J20(-8.5,2.5) J21(-8.5,3.5) J22(-8.5,4.5) J23(-8.5,5.5) J24(-8.5,6.5) J25(-8.5,7.5) J26(-8.5,8.5) J27(-8.5,9.5) J28(-8.5,10.5) J29(-8.5,11.5) J30(-8.5,12.5) J31(-8.5,13.5) J32(-8.5,14.5) J33(-8.5,15.5) J34(-8.5,16.5) K1(-7.5,-16.5) K2(-7.5,-15.5) K3(-7.5,-14.5) K4(-7.5,-13.5) K5(-7.5,-12.5) K6(-7.5,-11.5) K7(-7.5,-10.5) K8(-7.5,-9.5) K9(-7.5,-8.5) K10(-7.5,-7.5) K11(-7.5,-6.5) K12(-7.5,-5.5) K13(-7.5,-4.5) K14(-7.5,-3.5) K15(-7.5,-2.5) K16(-7.5,-1.5) K17(-7.5,-0.5) K18(-7.5,0.5) K19(-7.5,1.5) K20(-7.5,2.5) K21(-7.5,3.5) K22(-7.5,4.5) K23(-7.5,5.5) K24(-7.5,6.5) K25(-7.5,7.5) K26(-7.5,8.5) K27(-7.5,9.5) K28(-7.5,10.5) K29(-7.5,11.5) K30(-7.5,12.5) K31(-7.5,13.5) K32(-7.5,14.5) K33(-7.5,15.5) K34(-7.5,16.5) L1(-6.5,-16.5) L2(-6.5,-15.5) L3(-6.5,-14.5) L4(-6.5,-13.5) L5(-6.5,-12.5) L6(-6.5,-11.5) L7(-6.5,-10.5) L8(-6.5,-9.5) L9(-6.5,-8.5) L10(-6.5,-7.5) L11(-6.5,-6.5) L12(-6.5,-5.5) L13(-6.5,-4.5) L14(-6.5,-3.5) L15(-6.5,-2.5) L16(-6.5,-1.5) L17(-6.5,-0.5) L18(-6.5,0.5) L19(-6.5,1.5) L20(-6.5,2.5) L21(-6.5,3.5) L22(-6.5,4.5) L23(-6.5,5.5) L24(-6.5,6.5) L25(-6.5,7.5) L26(-6.5,8.5) L27(-6.5,9.5) L28(-6.5,10.5) L29(-6.5,11.5) L30(-6.5,12.5) L31(-6.5,13.5) L32(-6.5,14.5) L33(-6.5,15.5) L34(-6.5,16.5) M1(-5.5,-16.5) M2(-5.5,-15.5) M3(-5.5,-14.5) M4(-5.5,-13.5) M5(-5.5,-12.5) M6(-5.5,-11.5) M7(-5.5,-10.5) M8(-5.5,-9.5) M9(-5.5,-8.5) M10(-5.5,-7.5) M11(-5.5,-6.5) M12(-5.5,-5.5) M13(-5.5,-4.5) M14(-5.5,-3.5) M15(-5.5,-2.5) M16(-5.5,-1.5) M17(-5.5,-0.5) M18(-5.5,0.5) M19(-5.5,1.5) M20(-5.5,2.5) M21(-5.5,3.5) M22(-5.5,4.5) M23(-5.5,5.5) M24(-5.5,6.5) M25(-5.5,7.5) M26(-5.5,8.5) M27(-5.5,9.5) M28(-5.5,10.5) M29(-5.5,11.5) M30(-5.5,12.5) M31(-5.5,13.5) M32(-5.5,14.5) M33(-5.5,15.5) M34(-5.5,16.5) N1(-4.5,-16.5) N2(-4.5,-15.5) N3(-4.5,-14.5) N4(-4.5,-13.5) N5(-4.5,-12.5) N6(-4.5,-11.5) N7(-4.5,-10.5) N8(-4.5,-9.5) N9(-4.5,-8.5) N10(-4.5,-7.5) N11(-4.5,-6.5) N12(-4.5,-5.5) N13(-4.5,-4.5) N14(-4.5,-3.5) N15(-4.5,-2.5) N16(-4.5,-1.5) N17(-4.5,-0.5) N18(-4.5,0.5) N19(-4.5,1.5) N20(-4.5,2.5) N21(-4.5,3.5) N22(-4.5,4.5) N23(-4.5,5.5) N24(-4.5,6.5) N25(-4.5,7.5) N26(-4.5,8.5) N27(-4.5,9.5) N28(-4.5,10.5) N29(-4.5,11.5) N30(-4.5,12.5) N31(-4.5,13.5) N32(-4.5,14.5) N33(-4.5,15.5) N34(-4.5,16.5) P1(-3.5,-16.5) P2(-3.5,-15.5) P3(-3.5,-14.5) P4(-3.5,-13.5) P5(-3.5,-12.5) P6(-3.5,-11.5) P7(-3.5,-10.5) P8(-3.5,-9.5) P9(-3.5,-8.5) P10(-3.5,-7.5) P11(-3.5,-6.5) P12(-3.5,-5.5) P13(-3.5,-4.5) P14(-3.5,-3.5) P15(-3.5,-2.5) P16(-3.5,-1.5) P17(-3.5,-0.5) P18(-3.5,0.5) P19(-3.5,1.5) P20(-3.5,2.5) P21(-3.5,3.5) P22(-3.5,4.5) P23(-3.5,5.5) P24(-3.5,6.5) P25(-3.5,7.5) P26(-3.5,8.5) P27(-3.5,9.5) P28(-3.5,10.5) P29(-3.5,11.5) P30(-3.5,12.5) P31(-3.5,13.5) P32(-3.5,14.5) P33(-3.5,15.5) P34(-3.5,16.5) R1(-2.5,-16.5) R2(-2.5,-15.5) R3(-2.5,-14.5) R4(-2.5,-13.5) R5(-2.5,-12.5) R6(-2.5,-11.5) R7(-2.5,-10.5) R8(-2.5,-9.5) R9(-2.5,-8.5) R10(-2.5,-7.5) R11(-2.5,-6.5) R12(-2.5,-5.5) R13(-2.5,-4.5) R14(-2.5,-3.5) R15(-2.5,-2.5) R16(-2.5,-1.5) R17(-2.5,-0.5) R18(-2.5,0.5) R19(-2.5,1.5) R20(-2.5,2.5) R21(-2.5,3.5) R22(-2.5,4.5) R23(-2.5,5.5) R24(-2.5,6.5) R25(-2.5,7.5) R26(-2.5,8.5) R27(-2.5,9.5) R28(-2.5,10.5) R29(-2.5,11.5) R30(-2.5,12.5) R31(-2.5,13.5) R32(-2.5,14.5) R33(-2.5,15.5) R34(-2.5,16.5) T1(-1.5,-16.5) T2(-1.5,-15.5) T3(-1.5,-14.5) T4(-1.5,-13.5) T5(-1.5,-12.5) T6(-1.5,-11.5) T7(-1.5,-10.5) T8(-1.5,-9.5) T9(-1.5,-8.5) T10(-1.5,-7.5) T11(-1.5,-6.5) T12(-1.5,-5.5) T13(-1.5,-4.5) T14(-1.5,-3.5) T15(-1.5,-2.5) T16(-1.5,-1.5) T17(-1.5,-0.5) T18(-1.5,0.5) T19(-1.5,1.5) T20(-1.5,2.5) T21(-1.5,3.5) T22(-1.5,4.5) T23(-1.5,5.5) T24(-1.5,6.5) T25(-1.5,7.5) T26(-1.5,8.5) T27(-1.5,9.5) T28(-1.5,10.5) T29(-1.5,11.5) T30(-1.5,12.5) T31(-1.5,13.5) T32(-1.5,14.5) T33(-1.5,15.5) T34(-1.5,16.5) U1(-0.5,-16.5) U2(-0.5,-15.5) U3(-0.5,-14.5) U4(-0.5,-13.5) U5(-0.5,-12.5) U6(-0.5,-11.5) U7(-0.5,-10.5) U8(-0.5,-9.5) U9(-0.5,-8.5) U10(-0.5,-7.5) U11(-0.5,-6.5) U12(-0.5,-5.5) U13(-0.5,-4.5) U14(-0.5,-3.5) U15(-0.5,-2.5) U16(-0.5,-1.5) U17(-0.5,-0.5) U18(-0.5,0.5) U19(-0.5,1.5) U20(-0.5,2.5) U21(-0.5,3.5) U22(-0.5,4.5) U23(-0.5,5.5) U24(-0.5,6.5) U25(-0.5,7.5) U26(-0.5,8.5) U27(-0.5,9.5) U28(-0.5,10.5) U29(-0.5,11.5) U30(-0.5,12.5) U31(-0.5,13.5) U32(-0.5,14.5) U33(-0.5,15.5) U34(-0.5,16.5) V1(0.5,-16.5) V2(0.5,-15.5) V3(0.5,-14.5) V4(0.5,-13.5) V5(0.5,-12.5) V6(0.5,-11.5) V7(0.5,-10.5) V8(0.5,-9.5) V9(0.5,-8.5) V10(0.5,-7.5) V11(0.5,-6.5) V12(0.5,-5.5) V13(0.5,-4.5) V14(0.5,-3.5) V15(0.5,-2.5) V16(0.5,-1.5) V17(0.5,-0.5) V18(0.5,0.5) V19(0.5,1.5) V20(0.5,2.5) V21(0.5,3.5) V22(0.5,4.5) V23(0.5,5.5) V24(0.5,6.5) V25(0.5,7.5) V26(0.5,8.5) V27(0.5,9.5) V28(0.5,10.5) V29(0.5,11.5) V30(0.5,12.5) V31(0.5,13.5) V32(0.5,14.5) V33(0.5,15.5) V34(0.5,16.5) W1(1.5,-16.5) W2(1.5,-15.5) W3(1.5,-14.5) W4(1.5,-13.5) W5(1.5,-12.5) W6(1.5,-11.5) W7(1.5,-10.5) W8(1.5,-9.5) W9(1.5,-8.5) W10(1.5,-7.5) W11(1.5,-6.5) W12(1.5,-5.5) W13(1.5,-4.5) W14(1.5,-3.5) W15(1.5,-2.5) W16(1.5,-1.5) W17(1.5,-0.5) W18(1.5,0.5) W19(1.5,1.5) W20(1.5,2.5) W21(1.5,3.5) W22(1.5,4.5) W23(1.5,5.5) W24(1.5,6.5) W25(1.5,7.5) W26(1.5,8.5) W27(1.5,9.5) W28(1.5,10.5) W29(1.5,11.5) W30(1.5,12.5) W31(1.5,13.5) W32(1.5,14.5) W33(1.5,15.5) W34(1.5,16.5) Y1(2.5,-16.5) Y2(2.5,-15.5) Y3(2.5,-14.5) Y4(2.5,-13.5) Y5(2.5,-12.5) Y6(2.5,-11.5) Y7(2.5,-10.5) Y8(2.5,-9.5) Y9(2.5,-8.5) Y10(2.5,-7.5) Y11(2.5,-6.5) Y12(2.5,-5.5) Y13(2.5,-4.5) Y14(2.5,-3.5) Y15(2.5,-2.5) Y16(2.5,-1.5) Y17(2.5,-0.5) Y18(2.5,0.5) Y19(2.5,1.5) Y20(2.5,2.5) Y21(2.5,3.5) Y22(2.5,4.5) Y23(2.5,5.5) Y24(2.5,6.5) Y25(2.5,7.5) Y26(2.5,8.5) Y27(2.5,9.5) Y28(2.5,10.5) Y29(2.5,11.5) Y30(2.5,12.5) Y31(2.5,13.5) Y32(2.5,14.5) Y33(2.5,15.5) Y34(2.5,16.5)
Top Overlay:
  circle w0.25: c-16.5,-18.155 r0.125
  lines w0.2: -17.5,-17.5 -17.5,16.5 -16.5,17.5 16.5,17.5 17.5,16.5 17.5,-16.5 16.5,-17.5 -17.5,-17.5

## CCGA42.5X42.5-B560 [mm] "560-Pin Ceramic Column Grid Array Package (CG560)"
height 5.35
pads (560):
  round 0.85 smd: A1(-20.32,-20.32) A2(-20.32,-19.05) A3(-20.32,-17.78) A4(-20.32,-16.51) A5(-20.32,-15.24) A6(-20.32,-13.97) A7(-20.32,-12.7) A8(-20.32,-11.43) A9(-20.32,-10.16) A10(-20.32,-8.89) A11(-20.32,-7.62) A12(-20.32,-6.35) A13(-20.32,-5.08) A14(-20.32,-3.81) A15(-20.32,-2.54) A16(-20.32,-1.27) A17(-20.32,0) A18(-20.32,1.27) A19(-20.32,2.54) A20(-20.32,3.81) A21(-20.32,5.08) A22(-20.32,6.35) A23(-20.32,7.62) A24(-20.32,8.89) A25(-20.32,10.16) A26(-20.32,11.43) A27(-20.32,12.7) A28(-20.32,13.97) A29(-20.32,15.24) A30(-20.32,16.51) A31(-20.32,17.78) A32(-20.32,19.05) A33(-20.32,20.32) AA1(5.08,-20.32) AA2(5.08,-19.05) AA3(5.08,-17.78) AA4(5.08,-16.51) AA5(5.08,-15.24) AA29(5.08,15.24) AA30(5.08,16.51) AA31(5.08,17.78) AA32(5.08,19.05) AA33(5.08,20.32) AB1(6.35,-20.32) AB2(6.35,-19.05) AB3(6.35,-17.78) AB4(6.35,-16.51) AB5(6.35,-15.24) AB29(6.35,15.24) AB30(6.35,16.51) AB31(6.35,17.78) AB32(6.35,19.05) AB33(6.35,20.32) AC1(7.62,-20.32) AC2(7.62,-19.05) AC3(7.62,-17.78) AC4(7.62,-16.51) AC5(7.62,-15.24) AC29(7.62,15.24) AC30(7.62,16.51) AC31(7.62,17.78) AC32(7.62,19.05) AC33(7.62,20.32) AD1(8.89,-20.32) AD2(8.89,-19.05) AD3(8.89,-17.78) AD4(8.89,-16.51) AD5(8.89,-15.24) AD29(8.89,15.24) AD30(8.89,16.51) AD31(8.89,17.78) AD32(8.89,19.05) AD33(8.89,20.32) AE1(10.16,-20.32) AE2(10.16,-19.05) AE3(10.16,-17.78) AE4(10.16,-16.51) AE5(10.16,-15.24) AE29(10.16,15.24) AE30(10.16,16.51) AE31(10.16,17.78) AE32(10.16,19.05) AE33(10.16,20.32) AF1(11.43,-20.32) AF2(11.43,-19.05) AF3(11.43,-17.78) AF4(11.43,-16.51) AF5(11.43,-15.24) AF29(11.43,15.24) AF30(11.43,16.51) AF31(11.43,17.78) AF32(11.43,19.05) AF33(11.43,20.32) AG1(12.7,-20.32) AG2(12.7,-19.05) AG3(12.7,-17.78) AG4(12.7,-16.51) AG5(12.7,-15.24) AG29(12.7,15.24) AG30(12.7,16.51) AG31(12.7,17.78) AG32(12.7,19.05) AG33(12.7,20.32) AH1(13.97,-20.32) AH2(13.97,-19.05) AH3(13.97,-17.78) AH4(13.97,-16.51) AH5(13.97,-15.24) AH29(13.97,15.24) AH30(13.97,16.51) AH31(13.97,17.78) AH32(13.97,19.05) AH33(13.97,20.32) AJ1(15.24,-20.32) AJ2(15.24,-19.05) AJ3(15.24,-17.78) AJ4(15.24,-16.51) AJ5(15.24,-15.24) AJ6(15.24,-13.97) AJ7(15.24,-12.7) AJ8(15.24,-11.43) AJ9(15.24,-10.16) AJ10(15.24,-8.89) AJ11(15.24,-7.62) AJ12(15.24,-6.35) AJ13(15.24,-5.08) AJ14(15.24,-3.81) AJ15(15.24,-2.54) AJ16(15.24,-1.27) AJ17(15.24,0) AJ18(15.24,1.27) AJ19(15.24,2.54) AJ20(15.24,3.81) AJ21(15.24,5.08) AJ22(15.24,6.35) AJ23(15.24,7.62) AJ24(15.24,8.89) AJ25(15.24,10.16) AJ26(15.24,11.43) AJ27(15.24,12.7) AJ28(15.24,13.97) AJ29(15.24,15.24) AJ30(15.24,16.51) AJ31(15.24,17.78) AJ32(15.24,19.05) AJ33(15.24,20.32) AK1(16.51,-20.32) AK2(16.51,-19.05) AK3(16.51,-17.78) AK4(16.51,-16.51) AK5(16.51,-15.24) AK6(16.51,-13.97) AK7(16.51,-12.7) AK8(16.51,-11.43) AK9(16.51,-10.16) AK10(16.51,-8.89) AK11(16.51,-7.62) AK12(16.51,-6.35) AK13(16.51,-5.08) AK14(16.51,-3.81) AK15(16.51,-2.54) AK16(16.51,-1.27) AK17(16.51,0) AK18(16.51,1.27) AK19(16.51,2.54) AK20(16.51,3.81) AK21(16.51,5.08) AK22(16.51,6.35) AK23(16.51,7.62) AK24(16.51,8.89) AK25(16.51,10.16) AK26(16.51,11.43) AK27(16.51,12.7) AK28(16.51,13.97) AK29(16.51,15.24) AK30(16.51,16.51) AK31(16.51,17.78) AK32(16.51,19.05) AK33(16.51,20.32) AL1(17.78,-20.32) AL2(17.78,-19.05) AL3(17.78,-17.78) AL4(17.78,-16.51) AL5(17.78,-15.24) AL6(17.78,-13.97) AL7(17.78,-12.7) AL8(17.78,-11.43) AL9(17.78,-10.16) AL10(17.78,-8.89) AL11(17.78,-7.62) AL12(17.78,-6.35) AL13(17.78,-5.08) AL14(17.78,-3.81) AL15(17.78,-2.54) AL16(17.78,-1.27) AL17(17.78,0) AL18(17.78,1.27) AL19(17.78,2.54) AL20(17.78,3.81) AL21(17.78,5.08) AL22(17.78,6.35) AL23(17.78,7.62) AL24(17.78,8.89) AL25(17.78,10.16) AL26(17.78,11.43) AL27(17.78,12.7) AL28(17.78,13.97) AL29(17.78,15.24) AL30(17.78,16.51) AL31(17.78,17.78) AL32(17.78,19.05) AL33(17.78,20.32) AM1(19.05,-20.32) AM2(19.05,-19.05) AM3(19.05,-17.78) AM4(19.05,-16.51) AM5(19.05,-15.24) AM6(19.05,-13.97) AM7(19.05,-12.7) AM8(19.05,-11.43) AM9(19.05,-10.16) AM10(19.05,-8.89) AM11(19.05,-7.62) AM12(19.05,-6.35) AM13(19.05,-5.08) AM14(19.05,-3.81) AM15(19.05,-2.54) AM16(19.05,-1.27) AM17(19.05,0) AM18(19.05,1.27) AM19(19.05,2.54) AM20(19.05,3.81) AM21(19.05,5.08) AM22(19.05,6.35) AM23(19.05,7.62) AM24(19.05,8.89) AM25(19.05,10.16) AM26(19.05,11.43) AM27(19.05,12.7) AM28(19.05,13.97) AM29(19.05,15.24) AM30(19.05,16.51) AM31(19.05,17.78) AM32(19.05,19.05) AM33(19.05,20.32) AN1(20.32,-20.32) AN2(20.32,-19.05) AN3(20.32,-17.78) AN4(20.32,-16.51) AN5(20.32,-15.24) AN6(20.32,-13.97) AN7(20.32,-12.7) AN8(20.32,-11.43) AN9(20.32,-10.16) AN10(20.32,-8.89) AN11(20.32,-7.62) AN12(20.32,-6.35) AN13(20.32,-5.08) AN14(20.32,-3.81) AN15(20.32,-2.54) AN16(20.32,-1.27) AN17(20.32,0) AN18(20.32,1.27) AN19(20.32,2.54) AN20(20.32,3.81) AN21(20.32,5.08) AN22(20.32,6.35) AN23(20.32,7.62) AN24(20.32,8.89) AN25(20.32,10.16) AN26(20.32,11.43) AN27(20.32,12.7) AN28(20.32,13.97) AN29(20.32,15.24) AN30(20.32,16.51) AN31(20.32,17.78) AN32(20.32,19.05) AN33(20.32,20.32) B1(-19.05,-20.32) B2(-19.05,-19.05) B3(-19.05,-17.78) B4(-19.05,-16.51) B5(-19.05,-15.24) B6(-19.05,-13.97) B7(-19.05,-12.7) B8(-19.05,-11.43) B9(-19.05,-10.16) B10(-19.05,-8.89) B11(-19.05,-7.62) B12(-19.05,-6.35) B13(-19.05,-5.08) B14(-19.05,-3.81) B15(-19.05,-2.54) B16(-19.05,-1.27) B17(-19.05,0) B18(-19.05,1.27) B19(-19.05,2.54) B20(-19.05,3.81) B21(-19.05,5.08) B22(-19.05,6.35) B23(-19.05,7.62) B24(-19.05,8.89) B25(-19.05,10.16) B26(-19.05,11.43) B27(-19.05,12.7) B28(-19.05,13.97) B29(-19.05,15.24) B30(-19.05,16.51) B31(-19.05,17.78) B32(-19.05,19.05) B33(-19.05,20.32) C1(-17.78,-20.32) C2(-17.78,-19.05) C3(-17.78,-17.78) C4(-17.78,-16.51) C5(-17.78,-15.24) C6(-17.78,-13.97) C7(-17.78,-12.7) C8(-17.78,-11.43) C9(-17.78,-10.16) C10(-17.78,-8.89) C11(-17.78,-7.62) C12(-17.78,-6.35) C13(-17.78,-5.08) C14(-17.78,-3.81) C15(-17.78,-2.54) C16(-17.78,-1.27) C17(-17.78,0) C18(-17.78,1.27) C19(-17.78,2.54) C20(-17.78,3.81) C21(-17.78,5.08) C22(-17.78,6.35) C23(-17.78,7.62) C24(-17.78,8.89) C25(-17.78,10.16) C26(-17.78,11.43) C27(-17.78,12.7) C28(-17.78,13.97) C29(-17.78,15.24) C30(-17.78,16.51) C31(-17.78,17.78) C32(-17.78,19.05) C33(-17.78,20.32) D1(-16.51,-20.32) D2(-16.51,-19.05) D3(-16.51,-17.78) D4(-16.51,-16.51) D5(-16.51,-15.24) D6(-16.51,-13.97) D7(-16.51,-12.7) D8(-16.51,-11.43) D9(-16.51,-10.16) D10(-16.51,-8.89) D11(-16.51,-7.62) D12(-16.51,-6.35) D13(-16.51,-5.08) D14(-16.51,-3.81) D15(-16.51,-2.54) D16(-16.51,-1.27) D17(-16.51,0) D18(-16.51,1.27) D19(-16.51,2.54) D20(-16.51,3.81) D21(-16.51,5.08) D22(-16.51,6.35) D23(-16.51,7.62) D24(-16.51,8.89) D25(-16.51,10.16) D26(-16.51,11.43) D27(-16.51,12.7) D28(-16.51,13.97) D29(-16.51,15.24) D30(-16.51,16.51) D31(-16.51,17.78) D32(-16.51,19.05) D33(-16.51,20.32) E1(-15.24,-20.32) E2(-15.24,-19.05) E3(-15.24,-17.78) E4(-15.24,-16.51) E5(-15.24,-15.24) E6(-15.24,-13.97) E7(-15.24,-12.7) E8(-15.24,-11.43) E9(-15.24,-10.16) E10(-15.24,-8.89) E11(-15.24,-7.62) E12(-15.24,-6.35) E13(-15.24,-5.08) E14(-15.24,-3.81) E15(-15.24,-2.54) E16(-15.24,-1.27) E17(-15.24,0) E18(-15.24,1.27) E19(-15.24,2.54) E20(-15.24,3.81) E21(-15.24,5.08) E22(-15.24,6.35) E23(-15.24,7.62) E24(-15.24,8.89) E25(-15.24,10.16) E26(-15.24,11.43) E27(-15.24,12.7) E28(-15.24,13.97) E29(-15.24,15.24) E30(-15.24,16.51) E31(-15.24,17.78) E32(-15.24,19.05) E33(-15.24,20.32) F1(-13.97,-20.32) F2(-13.97,-19.05) F3(-13.97,-17.78) F4(-13.97,-16.51) F5(-13.97,-15.24) F29(-13.97,15.24) F30(-13.97,16.51) F31(-13.97,17.78) F32(-13.97,19.05) F33(-13.97,20.32) G1(-12.7,-20.32) G2(-12.7,-19.05) G3(-12.7,-17.78) G4(-12.7,-16.51) G5(-12.7,-15.24) G29(-12.7,15.24) G30(-12.7,16.51) G31(-12.7,17.78) G32(-12.7,19.05) G33(-12.7,20.32) H1(-11.43,-20.32) H2(-11.43,-19.05) H3(-11.43,-17.78) H4(-11.43,-16.51) H5(-11.43,-15.24) H29(-11.43,15.24) H30(-11.43,16.51) H31(-11.43,17.78) H32(-11.43,19.05) H33(-11.43,20.32) J1(-10.16,-20.32) J2(-10.16,-19.05) J3(-10.16,-17.78) J4(-10.16,-16.51) J5(-10.16,-15.24) J29(-10.16,15.24) J30(-10.16,16.51) J31(-10.16,17.78) J32(-10.16,19.05) J33(-10.16,20.32) K1(-8.89,-20.32) K2(-8.89,-19.05) K3(-8.89,-17.78) K4(-8.89,-16.51) K5(-8.89,-15.24) K29(-8.89,15.24) K30(-8.89,16.51) K31(-8.89,17.78) K32(-8.89,19.05) K33(-8.89,20.32) L1(-7.62,-20.32) L2(-7.62,-19.05) L3(-7.62,-17.78) L4(-7.62,-16.51) L5(-7.62,-15.24) L29(-7.62,15.24) L30(-7.62,16.51) L31(-7.62,17.78) L32(-7.62,19.05) L33(-7.62,20.32) M1(-6.35,-20.32) M2(-6.35,-19.05) M3(-6.35,-17.78) M4(-6.35,-16.51) M5(-6.35,-15.24) M29(-6.35,15.24) M30(-6.35,16.51) M31(-6.35,17.78) M32(-6.35,19.05) M33(-6.35,20.32) N1(-5.08,-20.32) N2(-5.08,-19.05) N3(-5.08,-17.78) N4(-5.08,-16.51) N5(-5.08,-15.24) N29(-5.08,15.24) N30(-5.08,16.51) N31(-5.08,17.78) N32(-5.08,19.05) N33(-5.08,20.32) P1(-3.81,-20.32) P2(-3.81,-19.05) P3(-3.81,-17.78) P4(-3.81,-16.51) P5(-3.81,-15.24) P29(-3.81,15.24) P30(-3.81,16.51) P31(-3.81,17.78) P32(-3.81,19.05) P33(-3.81,20.32) R1(-2.54,-20.32) R2(-2.54,-19.05) R3(-2.54,-17.78) R4(-2.54,-16.51) R5(-2.54,-15.24) R29(-2.54,15.24) R30(-2.54,16.51) R31(-2.54,17.78) R32(-2.54,19.05) R33(-2.54,20.32) T1(-1.27,-20.32) T2(-1.27,-19.05) T3(-1.27,-17.78) T4(-1.27,-16.51) T5(-1.27,-15.24) T29(-1.27,15.24) T30(-1.27,16.51) T31(-1.27,17.78) T32(-1.27,19.05) T33(-1.27,20.32) U1(0,-20.32) U2(0,-19.05) U3(0,-17.78) U4(0,-16.51) U5(0,-15.24) U29(0,15.24) U30(0,16.51) U31(0,17.78) U32(0,19.05) U33(0,20.32) V1(1.27,-20.32) V2(1.27,-19.05) V3(1.27,-17.78) V4(1.27,-16.51) V5(1.27,-15.24) V29(1.27,15.24) V30(1.27,16.51) V31(1.27,17.78) V32(1.27,19.05) V33(1.27,20.32) W1(2.54,-20.32) W2(2.54,-19.05) W3(2.54,-17.78) W4(2.54,-16.51) W5(2.54,-15.24) W29(2.54,15.24) W30(2.54,16.51) W31(2.54,17.78) W32(2.54,19.05) W33(2.54,20.32) Y1(3.81,-20.32) Y2(3.81,-19.05) Y3(3.81,-17.78) Y4(3.81,-16.51) Y5(3.81,-15.24) Y29(3.81,15.24) Y30(3.81,16.51) Y31(3.81,17.78) Y32(3.81,19.05) Y33(3.81,20.32)
Top Overlay:
  circle w0.25: c-20.32,-21.905 r0.125
  lines w0.2: -21.25,-21.25 20.557,-21.25 21.25,-20.557 21.25,20.557 20.557,21.25 -20.557,21.25 -21.25,20.557 -21.25,-21.25